# EAGLE library part TPS7A49 (library linear regulators)
36-V, 150-mA, Ultralow-Noise, Positive Linear Regulator
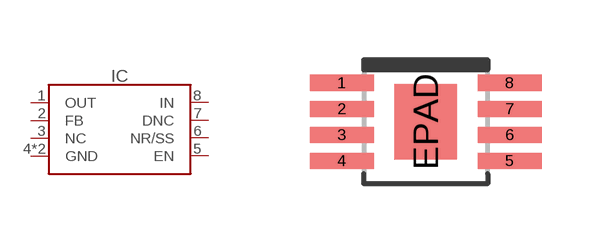
[diagram p1: symbol with the pads of HVSSOP-8; footprint HVSSOP-8]

Designator prefix IC

## TPS7A49 (LCSC#: C16430; MANF: TI; MANF#: TPS7A49)  [HVSSOP-8]
1  OUT
2  FB
3  NC
4  GND
5  EN
6  NR/SS
7  DNC
8  IN
EPAD  GND

## Footprint HVSSOP-8 (pad centres in mm)
Drawing <https://www.lcsc.com/datasheet/C16430.pdf?spm=wm.sxq.inf.ggs___wm.ssy.bg.0.xh&lcsc_vid=TgNYU1RfE1NfX1FeRlEPUV1STwQIXwAEFQIPBFVQRlkxVlNRQFFcUlJeQVNfUzsOAxUeFF5JWBYZEEoKFBINSQcJGk4eFQsCAgIaSgADAwAHC0slT1deVFRXWQkaCgg%3D>
smd 1.6 x 0.4: 1 -2.1,0.975; 2 -2.1,0.325; 3 -2.1,-0.325; 4 -2.1,-0.975; 5 2.1,-0.975; 6 2.1,-0.325; 7 2.1,0.325; 8 2.1,0.975
smd 1.57 x 1.89: EPAD 0,0